# Altium footprint library SOP50P310X90-8N.PcbLib: 1 footprints
Each footprint in its own frame and in the unit in brackets; x right, y up, seen from the top. Pads: shape width x height; smd on the part's side, far side on the other; paste and mask are expansions set on the pad; w line width, h text height; cw(c..) or ccw(c..) is an arc to the next point about the centre after c.
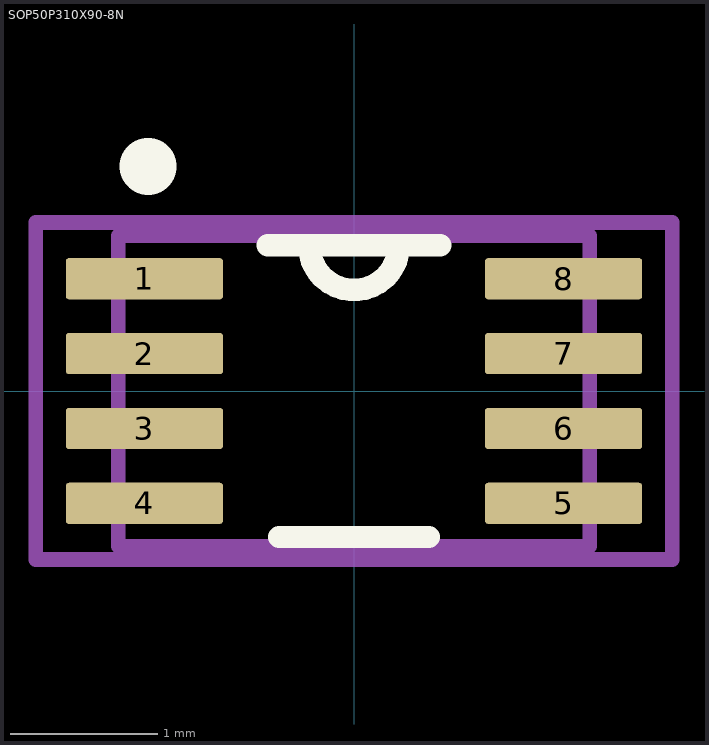
[diagram p0: the footprint, top view; thin cyan lines are the x and y axes]

## SOP50P310X90-8N [mil]
pads (8):
  rrect15% 42x11 smd mask+2.5: 1(-56,30) 2(-56,10) 3(-56,-10) 4(-56,-30) 5(56,-30) 6(56,-10) 7(56,10) 8(56,30)
Top Overlay:
  circle w15: c-55,60 r0.09
  lines w6: -23,39 -12,39 ; -20,-39 20,-39 ; 23,39 12,39 ; -12,39 ccw(c0,39) 12,39 ; -12,39 12,39
Mechanical 13:
  lines w3.94: -63,41.48 -63,-41.5 63,-41.5 63,41.48 -62.95,41.48
Mechanical 15:
  lines w3.94: -85,-45 85,-45 85,45 -85,45 -85,-45
3D body "US8-8_2P1X2P4_ONS.step": height 35.12, standoff 0, extent -62.99,-41.5 62.99,41.5